# Altium footprint library Nuio_Left_Keyboard_Rev_G.PcbLib: 37 footprints (part 2 of 3)
Each footprint in its own frame and in the unit in brackets; x right, y up, seen from the top. Pads: shape width x height; smd on the part's side, far side on the other; paste and mask are expansions set on the pad; w line width, h text height; cw(c..) or ccw(c..) is an arc to the next point about the centre after c.
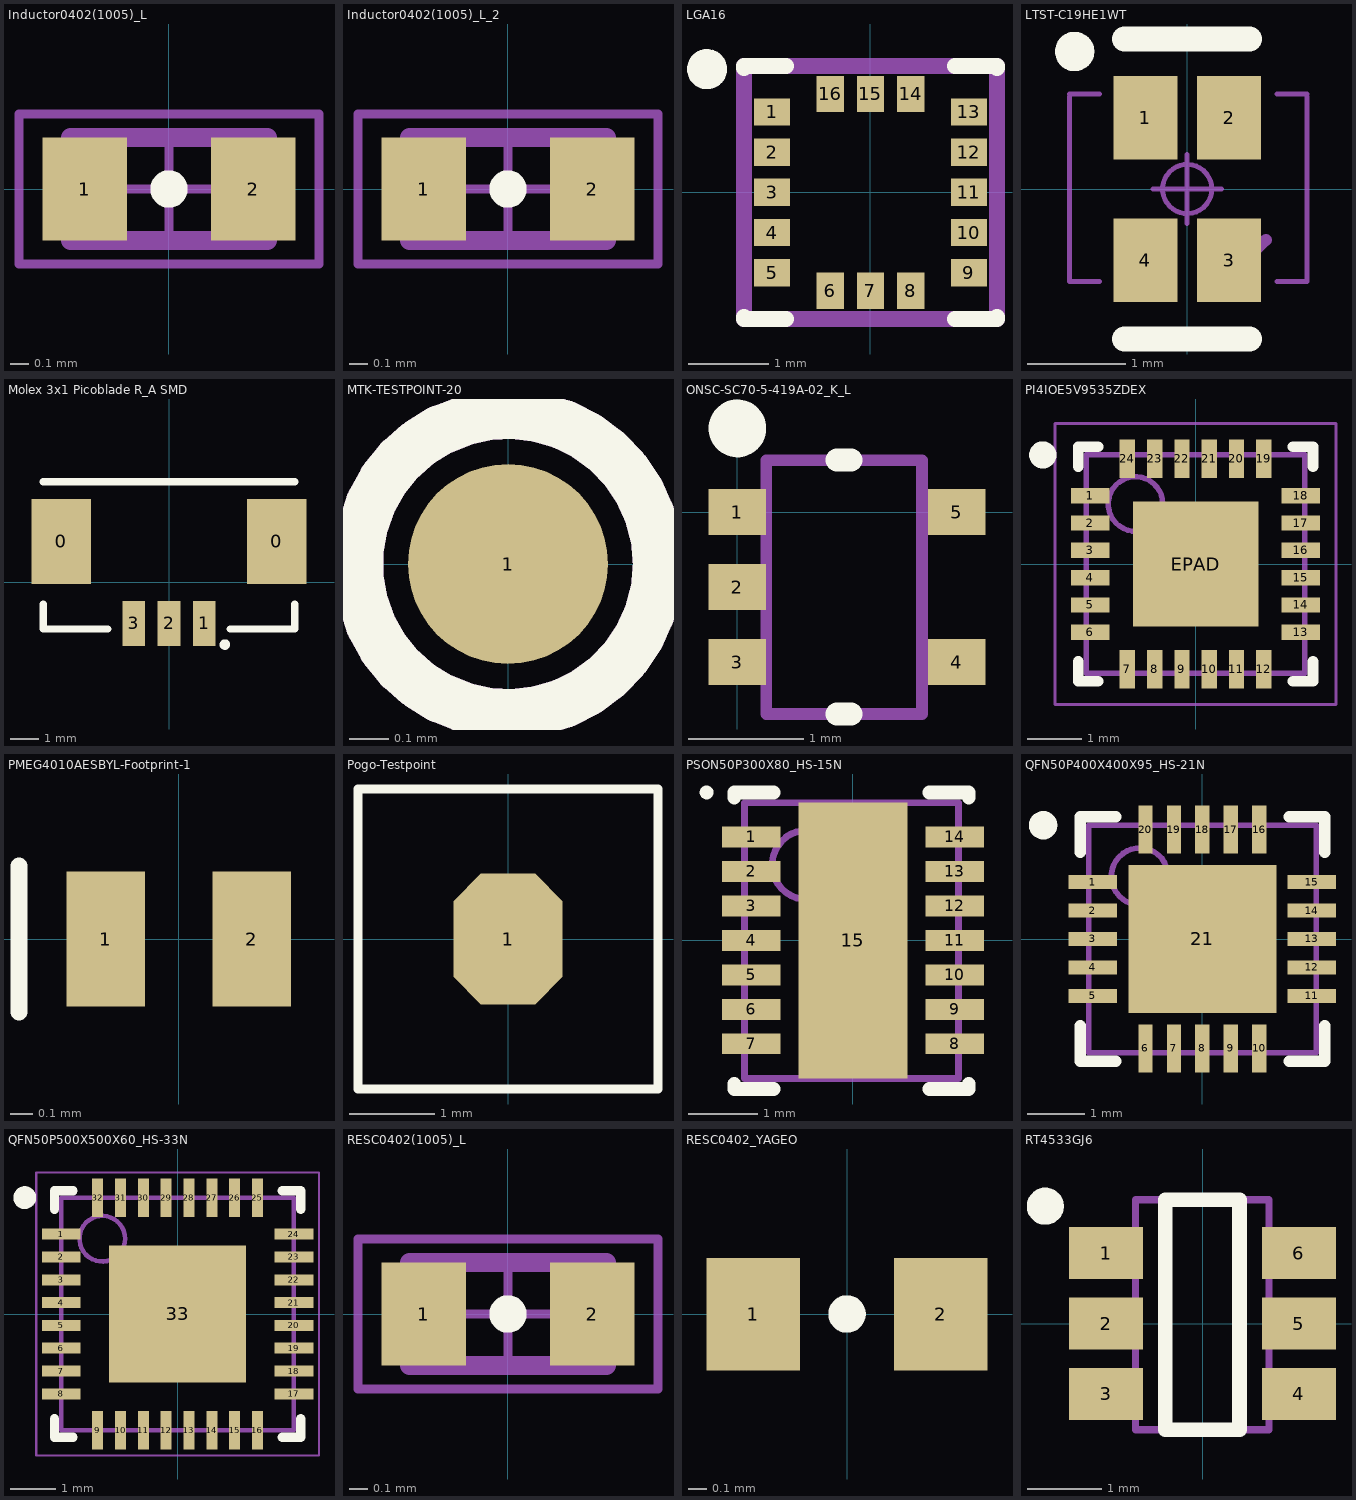
[diagram p1: the footprints below, top view; thin cyan lines are the x and y axes]

## Inductor0402(1005)_L [mm] "Chip Resistor, Body 1.0x0.5mm, IPC High Density"
height 0.4
pads (2):
  rect 0.45x0.55 smd: 1(-0.45,0) 2(0.45,0)
Top Overlay:
  circle w0.1: c0,0 r0.05
Mechanical 13:
  lines w0.1: -0.525,-0.275 0.525,-0.275 0.525,0.275 -0.525,0.275 -0.525,-0.275
Mechanical 15:
  lines w0.05: -0.275,0 0.275,0 ; 0,-0.275 0,0.275 ; -0.8,-0.4 0.8,-0.4 0.8,0.4 -0.8,0.4 -0.8,-0.4
3D body: height 0.55, standoff 0, extent 0.3,-0.275 0.525,0.275
3D body: height 0.55, standoff 0, extent -0.3,-0.275 0.3,0.275
3D body: height 0.55, standoff 0, extent -0.525,-0.275 -0.3,0.275

## Inductor0402(1005)_L_2 [mm]
pads (2):
  rect 0.45x0.55 smd: 1(-0.45,0) 2(0.45,0)
Top Overlay:
  circle w0.1: c0,0 r0.05
Mechanical 13:
  lines w0.1: -0.525,-0.275 -0.525,0.275 0.525,0.275 0.525,-0.275 -0.525,-0.275
Mechanical 15:
  lines w0.05: -0.275,0 0.275,0 ; 0,-0.275 0,0.275 ; -0.8,-0.4 -0.8,0.4 0.8,0.4 0.8,-0.4 -0.8,-0.4
3D body: height 0.55, standoff 0, extent -0.525,-0.275 -0.3,0.275
3D body: height 0.55, standoff 0, extent -0.3,-0.275 0.3,0.275
3D body: height 0.55, standoff 0, extent 0.3,-0.275 0.525,0.275

## LGA16 [mm] "LGA-16 3x3x1.0mm Land Grid Array"
height 1
pads (16):
  rect 0.45x0.34 smd: 1(-1.225,1) 2(-1.225,0.5) 3(-1.225,0) 4(-1.225,-0.5) 5(-1.225,-1) 9(1.225,-1) 10(1.225,-0.5) 11(1.225,0) 12(1.225,0.5) 13(1.225,1)
  rect 0.34x0.45 smd: 6(-0.5,-1.225) 7(0,-1.225) 8(0.5,-1.225) 14(0.5,1.225) 15(0,1.225) 16(-0.5,1.225)
Top Overlay:
  circle w0.25: c-2.034,1.533 r0.125
  lines w0.2: -1.575,-1.55 -1.575,-1.575 -1.05,-1.575 ; -1.575,1.55 -1.575,1.575 -1.05,1.575 ; 1.05,-1.575 1.575,-1.575 1.575,-1.55 ; 1.05,1.575 1.575,1.575 1.575,1.55
Top Paste:
  rectangle: 0.343,1.024 0.656,1.426
  rectangle: -0.157,1.024 0.157,1.426
  rectangle: -0.657,1.024 -0.343,1.426
  rectangle: -1.426,0.843 -1.024,1.157
  rectangle: -1.426,0.343 -1.024,0.657
  rectangle: -1.426,-0.157 -1.024,0.157
  rectangle: -1.426,-0.657 -1.024,-0.343
  rectangle: -1.426,-1.157 -1.024,-0.843
  rectangle: -0.656,-1.426 -0.343,-1.024
  rectangle: -0.157,-1.426 0.157,-1.024
  rectangle: 0.343,-1.426 0.657,-1.024
  rectangle: 1.024,-1.157 1.426,-0.843
  rectangle: 1.024,-0.657 1.426,-0.343
  rectangle: 1.024,-0.157 1.426,0.157
  rectangle: 1.024,0.343 1.426,0.657
  rectangle: 1.024,0.843 1.426,1.157
Top 3D Body:
  lines w0.2: -1.575,-1.575 1.575,-1.575 1.575,1.575 -1.575,1.575 -1.575,-1.575
3D body "LIS331DLH.STEP": height 1.01, standoff -0.01, extent -1.5,-1.5 1.5,1.5

## LTST-C19HE1WT [mm] "low-cost low-height RGB LED"
height 0.35
pads (4):
  rect 0.65x0.85 smd: 1(-0.425,0.725) 2(0.425,0.725) 3(0.425,-0.725) 4(-0.425,-0.725)
Top Overlay:
  circle w0.2: c-1.143,1.397 r0.1
  lines w0.254: -0.635,-1.524 0.635,-1.524 ; -0.635,1.524 0.635,1.524
Mechanical 11:
  lines w0.12: 0.267,-1.05 0.8,-0.517
Mechanical 15:
  circle w0.05: c0,0 r0.25
  lines w0.05: -1.194,0.94 -1.194,-0.94 -0.889,-0.94 ; -1.194,0.965 -0.889,0.965 ; -0.35,0 0.35,0 ; 0,-0.35 0,0.35 ; 0.914,-0.94 1.219,-0.94 1.219,0.94 ; 0.914,0.965 1.219,0.965
3D body "Tri color 0606.STEP": height 0.5, standoff -0.01, extent -0.8,-0.8 0.8,0.8

## Molex 3x1 Picoblade R_A SMD [mm]
height 6.858
pads (5):
  rect 2.1x3 smd: 0(-3.8,1.45) 0(3.8,1.45)
  rect 0.8x1.6 smd: 1(1.25,-1.45) 2(0,-1.45) 3(-1.25,-1.45)
Top Overlay:
  circle w0.254: c1.974,-2.196 r0.06
  lines w0.254: -4.445,-0.762 -4.445,-1.651 -2.159,-1.651 ; -4.445,3.556 4.445,3.556 ; 2.159,-1.651 4.445,-1.651 4.445,-0.762
3D body "532610371.stp": height 3.41, standoff 0.01, extent -4.45,-1.685 4.45,3.515

## MTK-TESTPOINT-20 [mil]
height 0.04
pads (1):
  round 20 smd paste-20: 1(0,0)
Top Overlay:
  circle w5: c0,0 r15
Bottom 3D Body:
  circle w5: c0,0 r15

## ONSC-SC70-5-419A-02_K_L [mm] "SOT23, 5-Leads, Body 2.2x1.35mm, Pitch 0.65mm, IPC High Density"
height 1.1
pads (5):
  rect 0.5x0.4 smd: 1(0,0) 2(0,-0.65) 3(0,-1.3) 4(1.9,-1.3) 5(1.9,0)
Top Overlay:
  circle w0.25: c0,0.725 r0.125
  lines w0.2: 0.865,-1.75 0.985,-1.75 ; 0.865,0.45 0.985,0.45
Mechanical 13:
  lines w0.1: 0.25,-1.75 1.6,-1.75 1.6,0.45 0.25,0.45 0.25,-1.75
3D body: height 1.1, standoff 0, extent 0.283,-1.724 1.633,0.476

## PI4IOE5V9535ZDEX [mm] "I/O Expander 16 I²C 400 kHz 24-TQFN (4x4)"
height 0.85
pads (25):
  rect 0.7x0.28 smd: 1(-1.93,1.25) 2(-1.93,0.75) 3(-1.93,0.25) 4(-1.93,-0.25) 5(-1.93,-0.75) 6(-1.93,-1.25) 13(1.93,-1.25) 14(1.93,-0.75) 15(1.93,-0.25) 16(1.93,0.25) 17(1.93,0.75) 18(1.93,1.25)
  rect 0.28x0.7 smd: 7(-1.25,-1.93) 8(-0.75,-1.93) 9(-0.25,-1.93) 10(0.25,-1.93) 11(0.75,-1.93) 12(1.25,-1.93) 19(1.25,1.93) 20(0.75,1.93) 21(0.25,1.93) 22(-0.25,1.93) 23(-0.75,1.93) 24(-1.25,1.93)
  rect 2.3x2.3 smd: EPAD(0,0)
Top Overlay:
  circle w0.25: c-2.8,2 r0.125
  lines w0.2: -2.15,-1.79 -2.15,-2.15 -1.79,-2.15 ; -2.15,1.79 -2.15,2.15 -1.79,2.15 ; 1.79,-2.15 2.15,-2.15 2.15,-1.79 ; 1.79,2.15 2.15,2.15 2.15,1.79
Mechanical 13:
  circle w0.1: c-1.1,1.1 r0.5
  lines w0.1: -2,-2 -2,2 2,2 2,-2 -2,-2
Mechanical 15:
  lines w0.05: -2.575,-2.575 -2.575,2.575 2.575,2.575 2.575,-2.575 -2.575,-2.575
  lines w0.1: -0.5,0 0.5,0 ; 0,-0.5 0,0.5
3D body: height 0.85, standoff 0.02, extent -2,-2 2,2

## PMEG4010AESBYL-Footprint-1 [mm]
pads (2):
  rect 0.35x0.6 smd: 1(-0.325,0) 2(0.325,0)
Top Overlay:
  lines w0.076: -0.711,-0.325 -0.711,0.325
3D body: height 0.3, standoff 0, extent 0.152,-0.305 0.508,0.305
3D body: height 0.3, standoff 0, extent -0.508,-0.305 -0.152,0.305
3D body: height 0.3, standoff 0.03, extent -0.533,-0.33 0.533,0.33

## Pogo-Testpoint [mil] "Test Point - Top Pad Only"
height 270
pads (1):
  oct 50x60 smd paste-60: 1(0,0)
Top Overlay:
  lines w3.94: -68.9,-68.9 68.9,-68.9 68.9,68.9 -68.9,68.9 -68.9,-68.9

## PSON50P300X80_HS-15N [mm] "PSON, 14-Leads, Body 3.95x3.00mm, Pitch 0.50mm, Thermal Pad 2.85x1.58mm, IPC Medium Density"
height 0.8
pads (15):
  rect 0.85x0.3 smd mask+0.07: 1(-1.475,1.5) 2(-1.475,1) 3(-1.475,0.5) 4(-1.475,0) 5(-1.475,-0.5) 6(-1.475,-1) 7(-1.475,-1.5) 8(1.475,-1.5) 9(1.475,-1) 10(1.475,-0.5) 11(1.475,0) 12(1.475,0.5) 13(1.475,1) 14(1.475,1.5)
  rect 1.58x4 smd mask+0.07: 15(0,0)
Top Overlay:
  circle w0.1: c-2.121,2.146 r0.05
  lines w0.2: -1.721,-2.079 -1.721,-2.154 -1.151,-2.154 ; -1.721,2.071 -1.721,2.146 -1.151,2.146 ; 1.109,-2.154 1.679,-2.154 1.679,-2.079 ; 1.109,2.146 1.679,2.146 1.679,2.071
Mechanical 13:
  circle w0.1: c-0.671,1.096 r0.5
  lines w0.1: -1.571,-2.004 -1.571,1.996 1.529,1.996 1.529,-2.004 -1.571,-2.004
3D body "PSON50P300X80_HS-15N.step": height 0.8, standoff 0, extent -1.572,-2.004 1.53,1.996

## QFN50P400X400X95_HS-21N [mm] "QFN, 20-Leads, Body 4.00x4.00mm, Pitch 0.50mm, Thermal Pad 2.60x2.60mm, IPC Medium Density"
height 0.95
pads (21):
  rect 0.85x0.25 smd: 1(-1.925,1) 2(-1.925,0.5) 3(-1.925,0) 4(-1.925,-0.5) 5(-1.925,-1) 11(1.925,-1) 12(1.925,-0.5) 13(1.925,0) 14(1.925,0.5) 15(1.925,1)
  rect 0.25x0.85 smd: 6(-1,-1.925) 7(-0.5,-1.925) 8(0,-1.925) 9(0.5,-1.925) 10(1,-1.925) 16(1,1.925) 17(0.5,1.925) 18(0,1.925) 19(-0.5,1.925) 20(-1,1.925)
  rect 2.6x2.6 smd: 21(0,0)
Top Overlay:
  circle w0.25: c-2.8,2 r0.125
  lines w0.2: -2.15,-1.525 -2.15,-2.15 -1.525,-2.15 ; -2.15,1.525 -2.15,2.15 -1.525,2.15 ; 1.525,-2.15 2.15,-2.15 2.15,-1.525 ; 1.525,2.15 2.15,2.15 2.15,1.525
Mechanical 13:
  circle w0.1: c-1.1,1.1 r0.5
  lines w0.1: -2,-2 -2,2 2,2 2,-2 -2,-2
3D body "QFN50P400X400X95_HS-21N.step": height 0.95, standoff 0, extent -2.001,-2.001 2.001,2.001

## QFN50P500X500X60_HS-33N [mm] "QFN, 32-Leads, Body 5.00x5.00mm, Pitch 0.50mm, Thermal Pad 3.00x3.00mm, IPC Medium Density"
height 0.6
pads (33):
  rect 0.85x0.24 smd mask+0.05: 1(-2.55,1.75) 2(-2.55,1.25) 3(-2.55,0.75) 4(-2.55,0.25) 5(-2.55,-0.25) 6(-2.55,-0.75) 7(-2.55,-1.25) 8(-2.55,-1.75) 17(2.55,-1.75) 18(2.55,-1.25) 19(2.55,-0.75) 20(2.55,-0.25) 21(2.55,0.25) 22(2.55,0.75) 23(2.55,1.25) 24(2.55,1.75)
  rect 0.24x0.85 smd mask+0.05: 9(-1.75,-2.55) 10(-1.25,-2.55) 11(-0.75,-2.55) 12(-0.25,-2.55) 13(0.25,-2.55) 14(0.75,-2.55) 15(1.25,-2.55) 16(1.75,-2.55) 25(1.75,2.55) 26(1.25,2.55) 27(0.75,2.55) 28(0.25,2.55) 29(-0.25,2.55) 30(-0.75,2.55) 31(-1.25,2.55) 32(-1.75,2.55)
  rect 3x3 smd paste+0: 33(0,0)
Top Overlay:
  circle w0.25: c-3.35,2.55 r0.125
  lines w0.2: -2.7,-2.295 -2.7,-2.7 -2.295,-2.7 ; -2.7,2.295 -2.7,2.7 -2.295,2.7 ; 2.295,-2.7 2.7,-2.7 2.7,-2.295 ; 2.295,2.7 2.7,2.7 2.7,2.295
Top Paste:
  region: -0.889,0.211 -0.889,0.911 -0.189,0.911 -0.189,0.211
  region: 0.211,0.211 0.211,0.911 0.911,0.911 0.911,0.211
  region: 0.211,-0.889 0.211,-0.189 0.911,-0.189 0.911,-0.889
  region: -0.889,-0.889 -0.889,-0.189 -0.189,-0.189 -0.189,-0.889
Mechanical 13:
  circle w0.1: c-1.65,1.65 r0.5
  lines w0.1: -2.55,-2.55 -2.55,2.55 2.55,2.55 2.55,-2.55 -2.55,-2.55
Mechanical 15:
  lines w0.05: -3.1,-3.1 -3.1,3.1 3.1,3.1 3.1,-3.1 -3.1,-3.1
  lines w0.1: -0.5,0 0.5,0 ; 0,-0.5 0,0.5
3D body "QFN50P500X500X60_HS-33N.step": height 0.6, standoff 0, extent -2.551,-2.551 2.551,2.551

## RESC0402(1005)_L [mm] "Chip Resistor, Body 1.0x0.5mm, IPC High Density"
height 0.4
pads (2):
  rect 0.45x0.55 smd mask+0.051: 1(-0.45,0) 2(0.45,0)
Top Overlay:
  circle w0.1: c0,0 r0.05
Mechanical 13:
  lines w0.1: -0.525,-0.275 -0.525,0.275 0.525,0.275 0.525,-0.275 -0.525,-0.275
Mechanical 15:
  lines w0.05: -0.275,0 0.275,0 ; 0,-0.275 0,0.275 ; -0.8,-0.4 -0.8,0.4 0.8,0.4 0.8,-0.4 -0.8,-0.4
3D body: height 0.4, standoff 0, extent -0.525,-0.275 -0.3,0.275
3D body: height 0.4, standoff 0, extent -0.3,-0.275 0.3,0.275
3D body: height 0.4, standoff 0, extent 0.3,-0.275 0.525,0.275

## RESC0402_YAGEO [mm] "Chip Resistor, Body 1.0x0.5mm, IPC High Density"
height 0.4
pads (2):
  rect 0.5x0.6 smd mask+0.05: 1(-0.5,0) 2(0.5,0)
Top Overlay:
  circle w0.1: c0,0 r0.05
3D body: height 0.4, standoff 0, extent -0.525,-0.275 -0.3,0.275
3D body: height 0.4, standoff 0, extent -0.3,-0.275 0.3,0.275
3D body: height 0.4, standoff 0, extent 0.3,-0.275 0.525,0.275

## RT4533GJ6 [mm] "IC LED DRVR RGLTR PWM TSOT23-6"
pads (6):
  rect 1x0.7 smd: 1(-1.3,0.95) 2(-1.3,0) 3(-1.3,-0.95) 4(1.3,-0.95) 5(1.3,0) 6(1.3,0.95)
Top Overlay:
  circle w0.25: c-2.12,1.582 r0.125
  lines w0.2: -0.503,-1.432 0.497,-1.432 0.497,1.668 -0.503,1.668 -0.503,-1.432
Mechanical 13:
  lines w0.1: -0.903,-1.432 -0.903,1.668 0.897,1.668 0.897,-1.432 -0.903,-1.432
3D body "SOT85P280X100-6N.step": height 1, standoff 0, extent -1.545,-1.562 1.455,1.538